# Altium footprint library RSCMJJM005NDSE3 Pressure Sensor.PcbLib: 1 footprints
Each footprint in its own frame and in the unit in brackets; x right, y up, seen from the top. Pads: shape width x height; smd on the part's side, far side on the other; paste and mask are expansions set on the pad; w line width, h text height; cw(c..) or ccw(c..) is an arc to the next point about the centre after c.
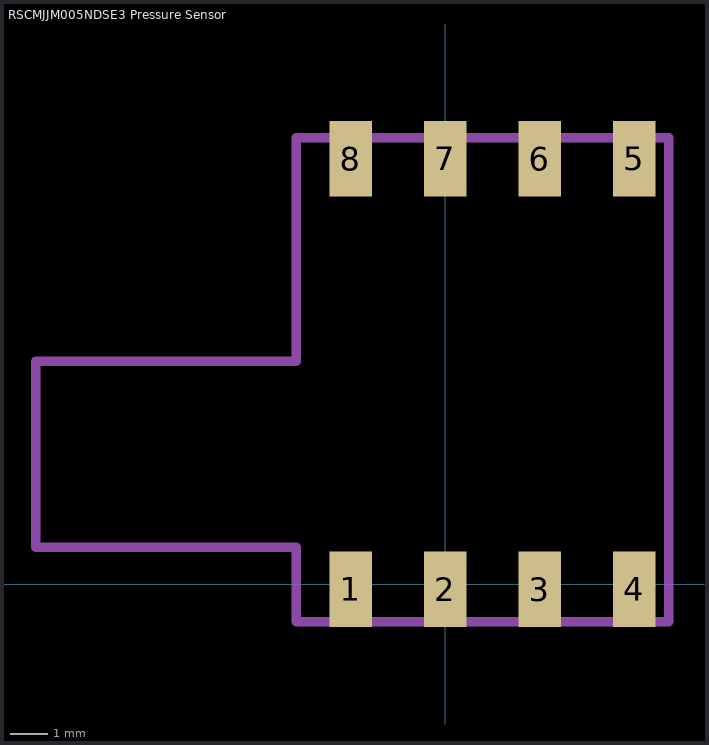
[diagram p0: the footprint, top view; thin cyan lines are the x and y axes]

## RSCMJJM005NDSE3 Pressure Sensor [mil]
pads (8):
  rect 45x80 smd: 1(-100,-5) 2(0,-5) 3(100,-5) 4(200,-5) 5(200,450.08) 6(100,450.08) 7(0,450.08) 8(-100,450.08)
Mechanical 1:
  lines w10: -433.07,39.37 -433.07,236.22 -157.48,236.22 -157.48,472.44 236.22,472.44 236.22,-39.37 -157.48,-39.37 -157.48,39.37 -433.07,39.37
3D body: height 330.71, standoff 212.6, extent -433.07,236.22 -157.48,472.44
3D body: height 330.71, standoff 0, extent -158.83,0 236.22,472.44
3D body: height 10, standoff 0, extent -59.06,236.22 -59.06,236.22
3D body: height 10, standoff 0, extent -314.96,137.79 -295.28,137.8
3D body: height 10, standoff 0, extent -295.28,137.79 -295.28,137.79
3D body: height 118.11, standoff 0, extent -433.07,39.37 -157.48,236.22